# EAGLE library part LMV358LIST (library StasDuino_Lib)
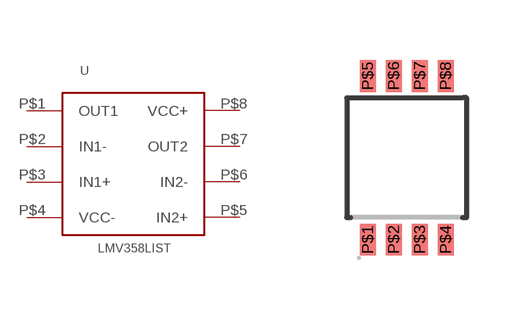
[diagram p3: symbol with the pads of LMV358LIST; footprint LMV358LIST]

Designator prefix -

## LMV358LIST  [LMV358LIST]
P$1  OUT1
P$2  IN1-
P$3  IN1+
P$4  VCC-
P$5  IN2+
P$6  IN2-
P$7  OUT2
P$8  VCC+

## Footprint LMV358LIST (pad centres in mm)
smd 0.4 x 0.8: P$1 -0.975,-2.05; P$2 -0.325,-2.05; P$3 0.325,-2.05; P$4 0.975,-2.05; P$5 -0.975,2.05; P$6 -0.325,2.05; P$7 0.325,2.05; P$8 0.975,2.05